# Altium footprint library CapTIvate_Connector.PcbLib: 2 footprints
Each footprint in its own frame and in the unit in brackets; x right, y up, seen from the top. Pads: shape width x height; smd on the part's side, far side on the other; paste and mask are expansions set on the pad; w line width, h text height; cw(c..) or ccw(c..) is an arc to the next point about the centre after c.
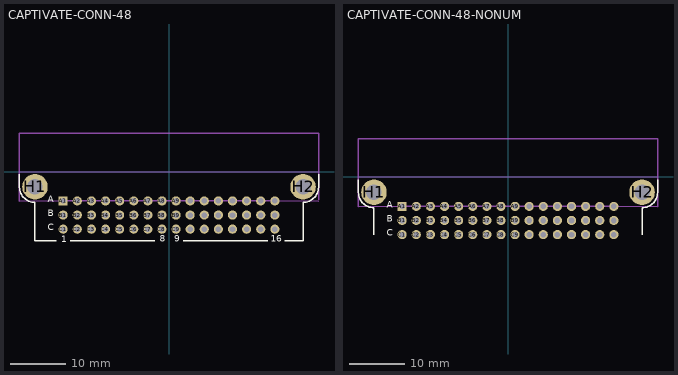
[diagram p0: the footprints below, top view; thin cyan lines are the x and y axes]

## CAPTIVATE-CONN-48 [mm] "Connector, 3x16, 100mil, TH, RA"
pads (50):
  rect 1.65x1.65 hole 1: A1(-19.05,-5.3)
  round 1.65 hole 1: A2(-16.51,-5.3) A3(-13.97,-5.3) A4(-11.43,-5.3) A5(-8.89,-5.3) A6(-6.35,-5.3) A7(-3.81,-5.3) A8(-1.27,-5.3) A9(1.27,-5.3) A10(3.81,-5.3) A11(6.35,-5.3) A12(8.89,-5.3) A13(11.43,-5.3) A14(13.97,-5.3) A15(16.51,-5.3) A16(19.05,-5.3) B1(-19.05,-7.84) B2(-16.51,-7.84) B3(-13.97,-7.84) B4(-11.43,-7.84) B5(-8.89,-7.84) B6(-6.35,-7.84) B7(-3.81,-7.84) B8(-1.27,-7.84) B9(1.27,-7.84) B10(3.81,-7.84) B11(6.35,-7.84) B12(8.89,-7.84) B13(11.43,-7.84) B14(13.97,-7.84) B15(16.51,-7.84) B16(19.05,-7.84) C1(-19.05,-10.38) C2(-16.51,-10.38) C3(-13.97,-10.38) C4(-11.43,-10.38) C5(-8.89,-10.38) C6(-6.35,-10.38) C7(-3.81,-10.38) C8(-1.27,-10.38) C9(1.27,-10.38) C10(3.81,-10.38) C11(6.35,-10.38) C12(8.89,-10.38) C13(11.43,-10.38) C14(13.97,-10.38) C15(16.51,-10.38) C16(19.05,-10.38)
  round 4.6 hole 2.8: H1(-24.13,-2.76) H2(24.13,-2.76)
Top Overlay:
  lines w0.254: -26.924,-2.794 ccw(c-24.13,-2.76) -24.13,-5.554 -24.13,-12.446 -20.32,-12.446 ; -26.924,-2.76 -26.924,-0.508 ; -17.78,-12.446 -2.54,-12.446 ; 2.54,-12.446 17.78,-12.446 ; 20.828,-12.446 24.13,-12.446 24.13,-5.554 ccw(c24.13,-2.76) 26.924,-2.794 26.924,-0.508
  text "9" at 0.965,-13.132 h2.03
  text "16" at 18.288,-13.132 h2.03
  text "8" at -1.702,-13.132 h2.03
  text "C" at -21.844,-11.049 h2.03
  text "B" at -21.844,-8.509 h2.03
  text "A" at -21.844,-5.969 h2.03
  text "1" at -19.355,-13.157 h2.03
M2 Board Dimensions:
  lines w0.1: -27,0 27,0
  text "PCB Edge" at -2.032,-1.016 h0.6
M5 Assembly Top:
  lines w0.254: 26.924,-5.334 19.05,-5.3 -19.05,-5.3 -26.924,-5.33 -26.924,6.858 26.924,6.858 26.924,-5.085
3D body: height 6.6, standoff 0, extent -27.051,-5.461 27.051,6.985

## CAPTIVATE-CONN-48-NONUM [mm] "Connector, 3x16, 100mil, TH, RA"
pads (50):
  rect 1.65x1.65 hole 1: A1(-19.05,-5.3)
  round 1.65 hole 1: A2(-16.51,-5.3) A3(-13.97,-5.3) A4(-11.43,-5.3) A5(-8.89,-5.3) A6(-6.35,-5.3) A7(-3.81,-5.3) A8(-1.27,-5.3) A9(1.27,-5.3) A10(3.81,-5.3) A11(6.35,-5.3) A12(8.89,-5.3) A13(11.43,-5.3) A14(13.97,-5.3) A15(16.51,-5.3) A16(19.05,-5.3) B1(-19.05,-7.84) B2(-16.51,-7.84) B3(-13.97,-7.84) B4(-11.43,-7.84) B5(-8.89,-7.84) B6(-6.35,-7.84) B7(-3.81,-7.84) B8(-1.27,-7.84) B9(1.27,-7.84) B10(3.81,-7.84) B11(6.35,-7.84) B12(8.89,-7.84) B13(11.43,-7.84) B14(13.97,-7.84) B15(16.51,-7.84) B16(19.05,-7.84) C1(-19.05,-10.38) C2(-16.51,-10.38) C3(-13.97,-10.38) C4(-11.43,-10.38) C5(-8.89,-10.38) C6(-6.35,-10.38) C7(-3.81,-10.38) C8(-1.27,-10.38) C9(1.27,-10.38) C10(3.81,-10.38) C11(6.35,-10.38) C12(8.89,-10.38) C13(11.43,-10.38) C14(13.97,-10.38) C15(16.51,-10.38) C16(19.05,-10.38)
  round 4.6 hole 2.8: H1(-24.13,-2.76) H2(24.13,-2.76)
Top Overlay:
  lines w0.254: -26.924,-2.794 ccw(c-24.13,-2.76) -24.13,-5.554 -24.13,-10.414 ; -26.924,-2.76 -26.924,-0.508 ; 24.13,-10.414 24.13,-5.554 ccw(c24.13,-2.76) 26.924,-2.794 26.924,-0.508
  text "C" at -21.844,-11.049 h2.03
  text "B" at -21.844,-8.509 h2.03
  text "A" at -21.844,-5.969 h2.03
M2 Board Dimensions:
  lines w0.1: -27,0 27,0
  text "PCB Edge" at -2.032,-1.016 h0.6
M5 Assembly Top:
  lines w0.254: -26.924,-5.33 -19.05,-5.3 19.05,-5.3 26.924,-5.334 26.924,-5.085 26.924,6.858 -26.924,6.858 -26.924,-5.33
3D body: height 6.6, standoff 0, extent -26.925,-5.335 26.925,6.859